# Altium schematic symbol library Connectors.SchLib: 134 symbols (part 2 of 2)
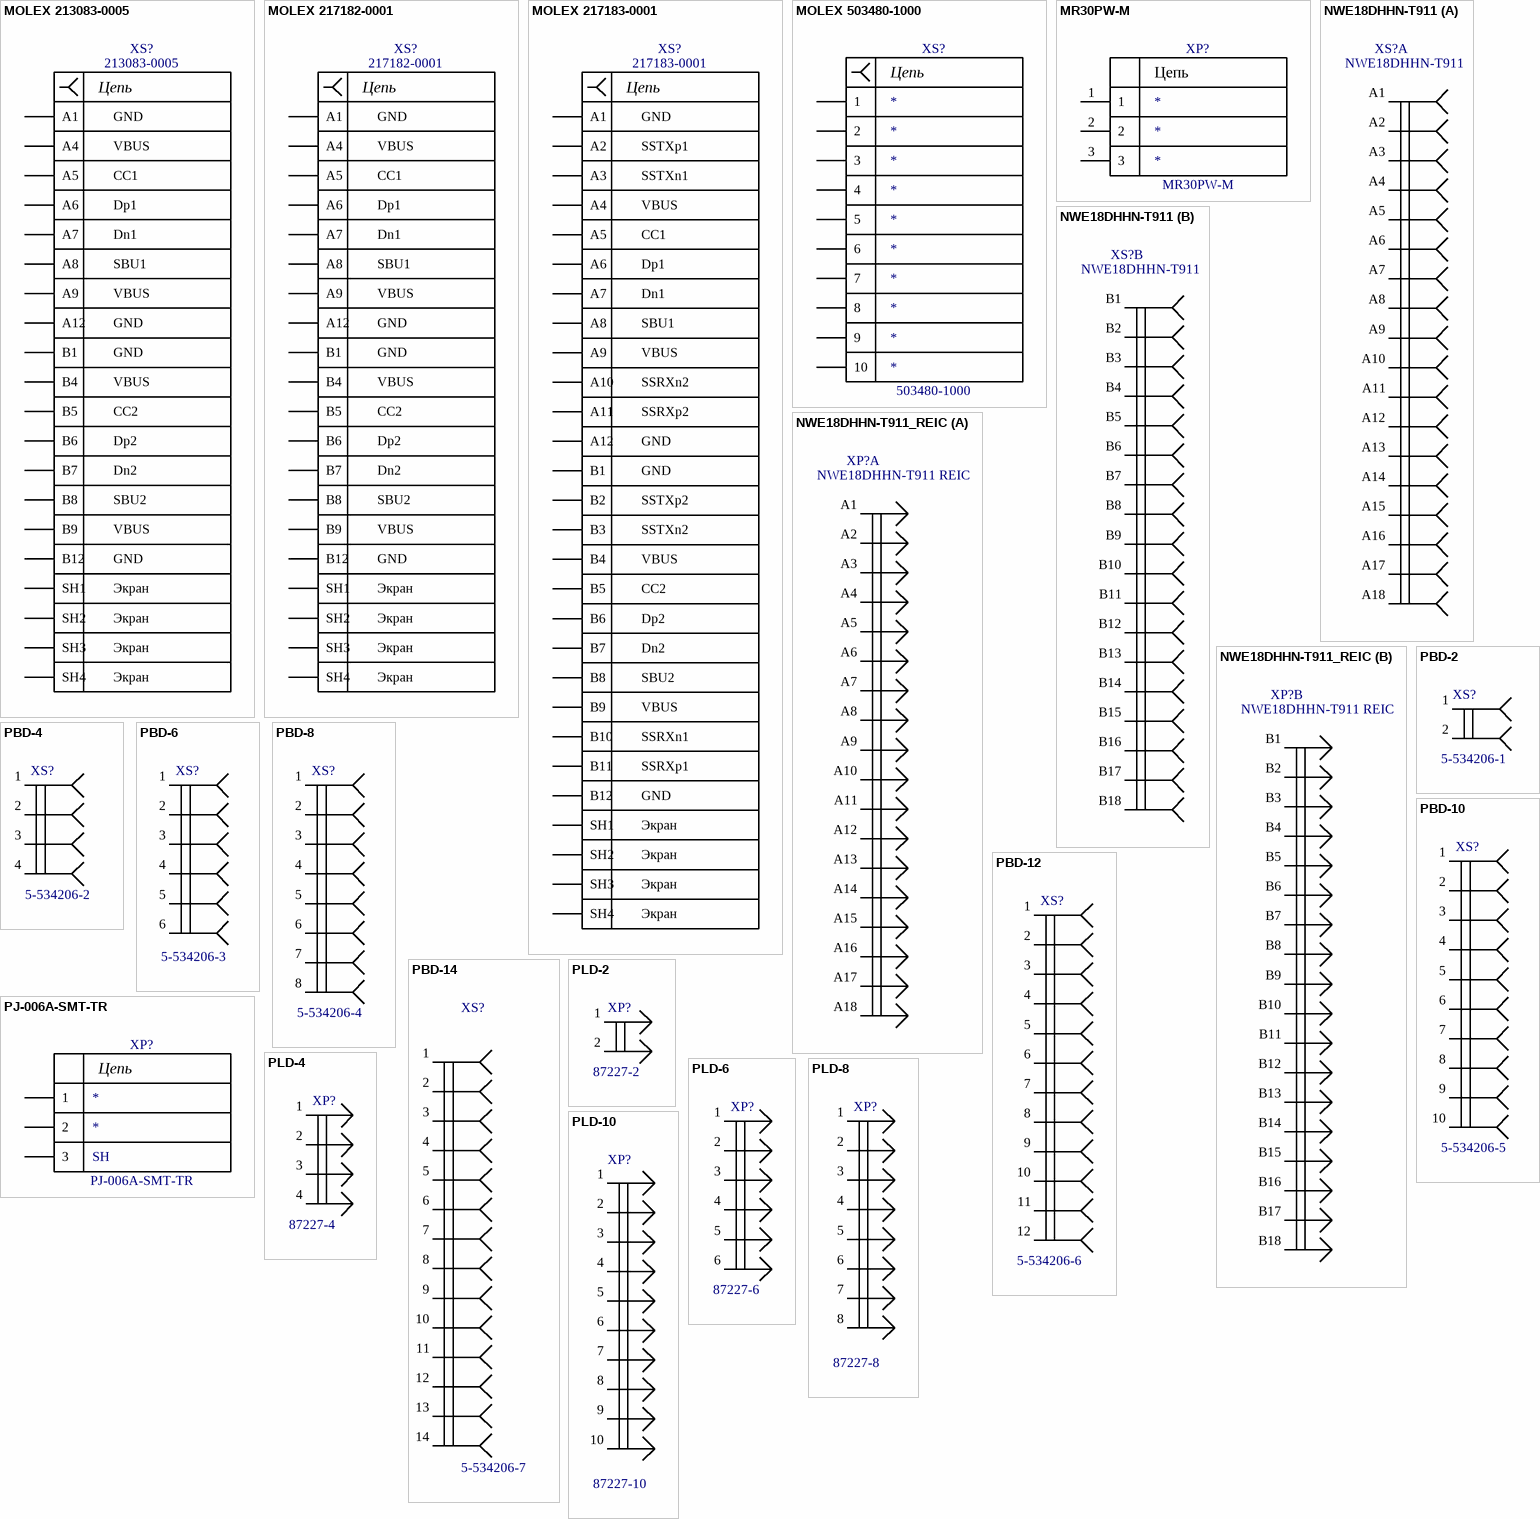
[diagram p5: symbols MOLEX 213083-0005 to PLD-10]

## PBD-2
designator XS?, comment 5-534206-1
Header, Vertical Receptacle, 2.54 mm pitch 2x1; Manufacturer: TE Connectivity; PartNumber: 5-534206-1; Net2: *; Net1: *
footprint RHDRV2W45P254_1X2_304X500H500 (Header, Vertical Receptacle, 2.54 mm pitch; 0.45 mm lead width, 2 pins, 2 rows, 1 pin per row, 3.04 mm L X 5.00 mm W X 5.00 mm H body)
pins: 1, 2
1 alternate drawing of the same symbol

## PBD-4
designator XS?, comment 5-534206-2
Header, Vertical Receptacle, 2.54 mm pitch 2x2; Manufacturer: TE Connectivity; PartNumber: 5-534206-2; Net1: *; Net2: *; Net3: *; Net4: *
footprint RHDRV4W45P254_2X2_558X500H500 (Header, Vertical Receptacle, 2.54 mm pitch; 0.45 mm lead width, 4 pins, 2 rows, 2 pins per row, 5.58 mm L X 5.00 mm W X 5.00 mm H body)
pins: 1, 2, 3, 4
1 alternate drawing of the same symbol

## PBD-6
designator XS?, comment 5-534206-3
Header, Vertical Receptacle, 2.54 mm pitch 2x3; Manufacturer: TE Connectivity; PartNumber: 5-534206-3; Net1: *; Net2: *; Net3: *; Net4: *; Net5: *; Net6: *
footprint RHDRV6W45P254_3X2_812X500H500 (Header, Vertical Receptacle, 2.54 mm pitch; 0.45 mm lead width, 6 pins, 2 rows, 3 pins per row, 8.12 mm L X 5.00 mm W X 5.00 mm H body)
pins: 1, 2, 3, 4, 5, 6
1 alternate drawing of the same symbol

## PBD-8
designator XS?, comment 5-534206-4
Header, Vertical Receptacle, 2.54 mm pitch 2x4; Manufacturer: TE Connectivity; PartNumber: 5-534206-4; Net1: *; Net2: *; Net3: *; Net4: *; Net5: *; Net6: *; Net7: *; Net8: *
footprint RHDRV8W45P254_4X2_1066X500H500 (Header, Vertical Receptacle, 2.54 mm pitch; 0.45 mm lead width, 8 pins, 2 rows, 4 pins per row, 10.66 mm L X 5.00 mm W X 5.00 mm H body)
pins: 1, 2, 3, 4, 5, 6, 7, 8
1 alternate drawing of the same symbol

## PBD-10
designator XS?, comment 5-534206-5
Header, Vertical Receptacle, 2.54 mm pitch 2x5; Manufacturer: TE Connectivity; PartNumber: 5-534206-5; Net1: *; Net2: *; Net3: *; Net4: *; Net5: *; Net9: *; Net10: *; Net6: *; Net8: *; Net7: *
footprint RHDRV10W45P254_5X2_1320X500H500 (Header, Vertical Receptacle, 2.54 mm pitch; 0.45 mm lead width, 10 pins, 2 rows, 5 pins per row, 13.20 mm L X 5.00 mm W X 5.00 mm H body)
pins: 1, 2, 3, 4, 5, 6, 7, 8, 9, 10
1 alternate drawing of the same symbol

## PBD-12
designator XS?, comment 5-534206-6
Header, Vertical Receptacle, 2.54 mm pitch 2x6; Manufacturer: TE Connectivity; PartNumber: 5-534206-6; Net1: *; Net2: *; Net3: *; Net4: *; Net5: *; Net6: *; Net7: *; Net8: *; Net9: *; Net10: *; Net11: *; Net12: *
footprint RHDRV12W45P254_6X2_1574X500H500 (Header, Vertical Receptacle, 2.54 mm pitch; 0.45 mm lead width, 12 pins, 2 rows, 6 pins per row, 15.74 mm L X 5.00 mm W X 5.00 mm H body)
pins: 1, 2, 3, 4, 5, 6, 7, 8, 9, 10, 11, 12
1 alternate drawing of the same symbol

## PBD-14
designator XS?, comment 5-534206-7
Header, Vertical Receptacle, 2.54 mm pitch 2x7; Manufacturer: TE Connectivity; PartNumber: 5-534206-7; Net1: *; Net2: *; Net3: *; Net4: *; Net5: *; Net6: *; Net7: *; Net8: *; Net9: *; Net10: *; Net14: *; Net13: *; Net12: *; Net11: *
footprint RHDRV14W64P254_7X2_1778X508H884 (Header, Vertical Receptacle, 2.54 mm pitch; 0.64 mm lead width, 14 pins, 2 rows, 7 pins per row, 17.78 mm L X 5.08 mm W X 8.84 mm H body)
pins: 1, 2, 3, 4, 5, 6, 7, 8, 9, 10, 11, 12, 13, 14
1 alternate drawing of the same symbol

## PJ-006A-SMT-TR
designator XP?
2.0 x 6.3 mm, 2.5 A, Vertical, Surface Mount (SMT), Dc Power Jack Connector; Manufacturer: CUIDevices; PartNumber: PJ-006A-SMT-TR; ComponentLink1Description: Product Page; ComponentLink1URL: https://www.cuidevices.com/product/interconnect/connectors/dc-power-connectors/jacks/pj-006a-smt-tr; ComponentLink2Description: DataSheet; ComponentLink2URL: https://www.cuidevices.com/product/resource/pdf/pj-006a-smt.pdf; Net2: *; Net1: *
footprint PJ-006A-SMT-TR (2.0 x 6.3 mm, 2.5 A, Vertical, Surface Mount (SMT), Dc Power Jack Connector)
pins: 1, 2, 3
text: Цепь; SH

## PLD-2
designator XP?, comment 87227-2
Header, Vertical, Non-shrouded, 2.54 mm pitch 2x1; Manufacturer: TE Connectivity; PartNumber: 87227-2; Net1: *; Net2: *
footprint HDRV2W64P254_1X2_254X508H884 (Header, Vertical, 2.54 mm pitch; 0.64 mm lead width, 2 pins, 2 rows, 1 pin per row, 2.54 mm L X 5.08 mm W X 8.84 mm H body)
pins: 1, 2
1 alternate drawing of the same symbol

## PLD-4
designator XP?, comment 87227-4
Header, Vertical, Non-shrouded, 2.54 mm pitch 2x2; Manufacturer: TE Connectivity; PartNumber: 87227-4; Net1: *; Net2: *; Net3: *; Net4: *
footprint HDRV4W64P254_2X2_508X508H884 (Header, Vertical, 2.54 mm pitch; 0.64 mm lead width, 4 pins, 2 rows, 2 pins per row, 5.08 mm L X 5.08 mm W X 8.84 mm H body)
pins: 1, 2, 3, 4
1 alternate drawing of the same symbol

## PLD-6
designator XP?, comment 87227-6
Header, Vertical, Non-shrouded, 2.54 mm pitch 2x3; Manufacturer: TE Connectivity; PartNumber: 87227-6; Net1: *; Net2: *; Net3: *; Net4: *; Net5: *; Net6: *
footprint HDRV6W64P254_3X2_762X508H884 (Header, Vertical, 2.54 mm pitch; 0.64 mm lead width, 6 pins, 2 rows, 3 pins per row, 7.62 mm L X 5.08 mm W X 8.84 mm H body)
pins: 1, 2, 3, 4, 5, 6
1 alternate drawing of the same symbol

## PLD-8
designator XP?, comment 87227-8
Header, Vertical, Non-shrouded, 2.54 mm pitch 2x4; Manufacturer: TE Connectivity; PartNumber: 87227-8; Net1: *; Net2: *; Net3: *; Net4: *; Net5: *; Net6: *; Net7: *; Net8: *
footprint HDRV8W64P254_4X2_1016X508H884 (Header, Vertical, 2.54 mm pitch; 0.64 mm lead width, 8 pins, 2 rows, 4 pins per row, 10.16 mm L X 5.08 mm W X 8.84 mm H body)
pins: 1, 2, 3, 4, 5, 6, 7, 8
1 alternate drawing of the same symbol

## PLD-10
designator XP?, comment 87227-10
Header, Vertical, Non-shrouded, 2.54 mm pitch 2x5; Manufacturer: TE Connectivity; PartNumber: 87227-10; Net1: *; Net10: *; Net2: *; Net3: *; Net4: *; Net5: *; Net6: *; Net7: *; Net8: *; Net9: *
footprint HDRV10W64P254_5X2_1270X508H884 (Header, Vertical, 2.54 mm pitch; 0.64 mm lead width, 10 pins, 2 rows, 5 pins per row, 12.70 mm L X 5.08 mm W X 8.84 mm H body)
pins: 1, 2, 3, 4, 5, 6, 7, 8, 9, 10
1 alternate drawing of the same symbol

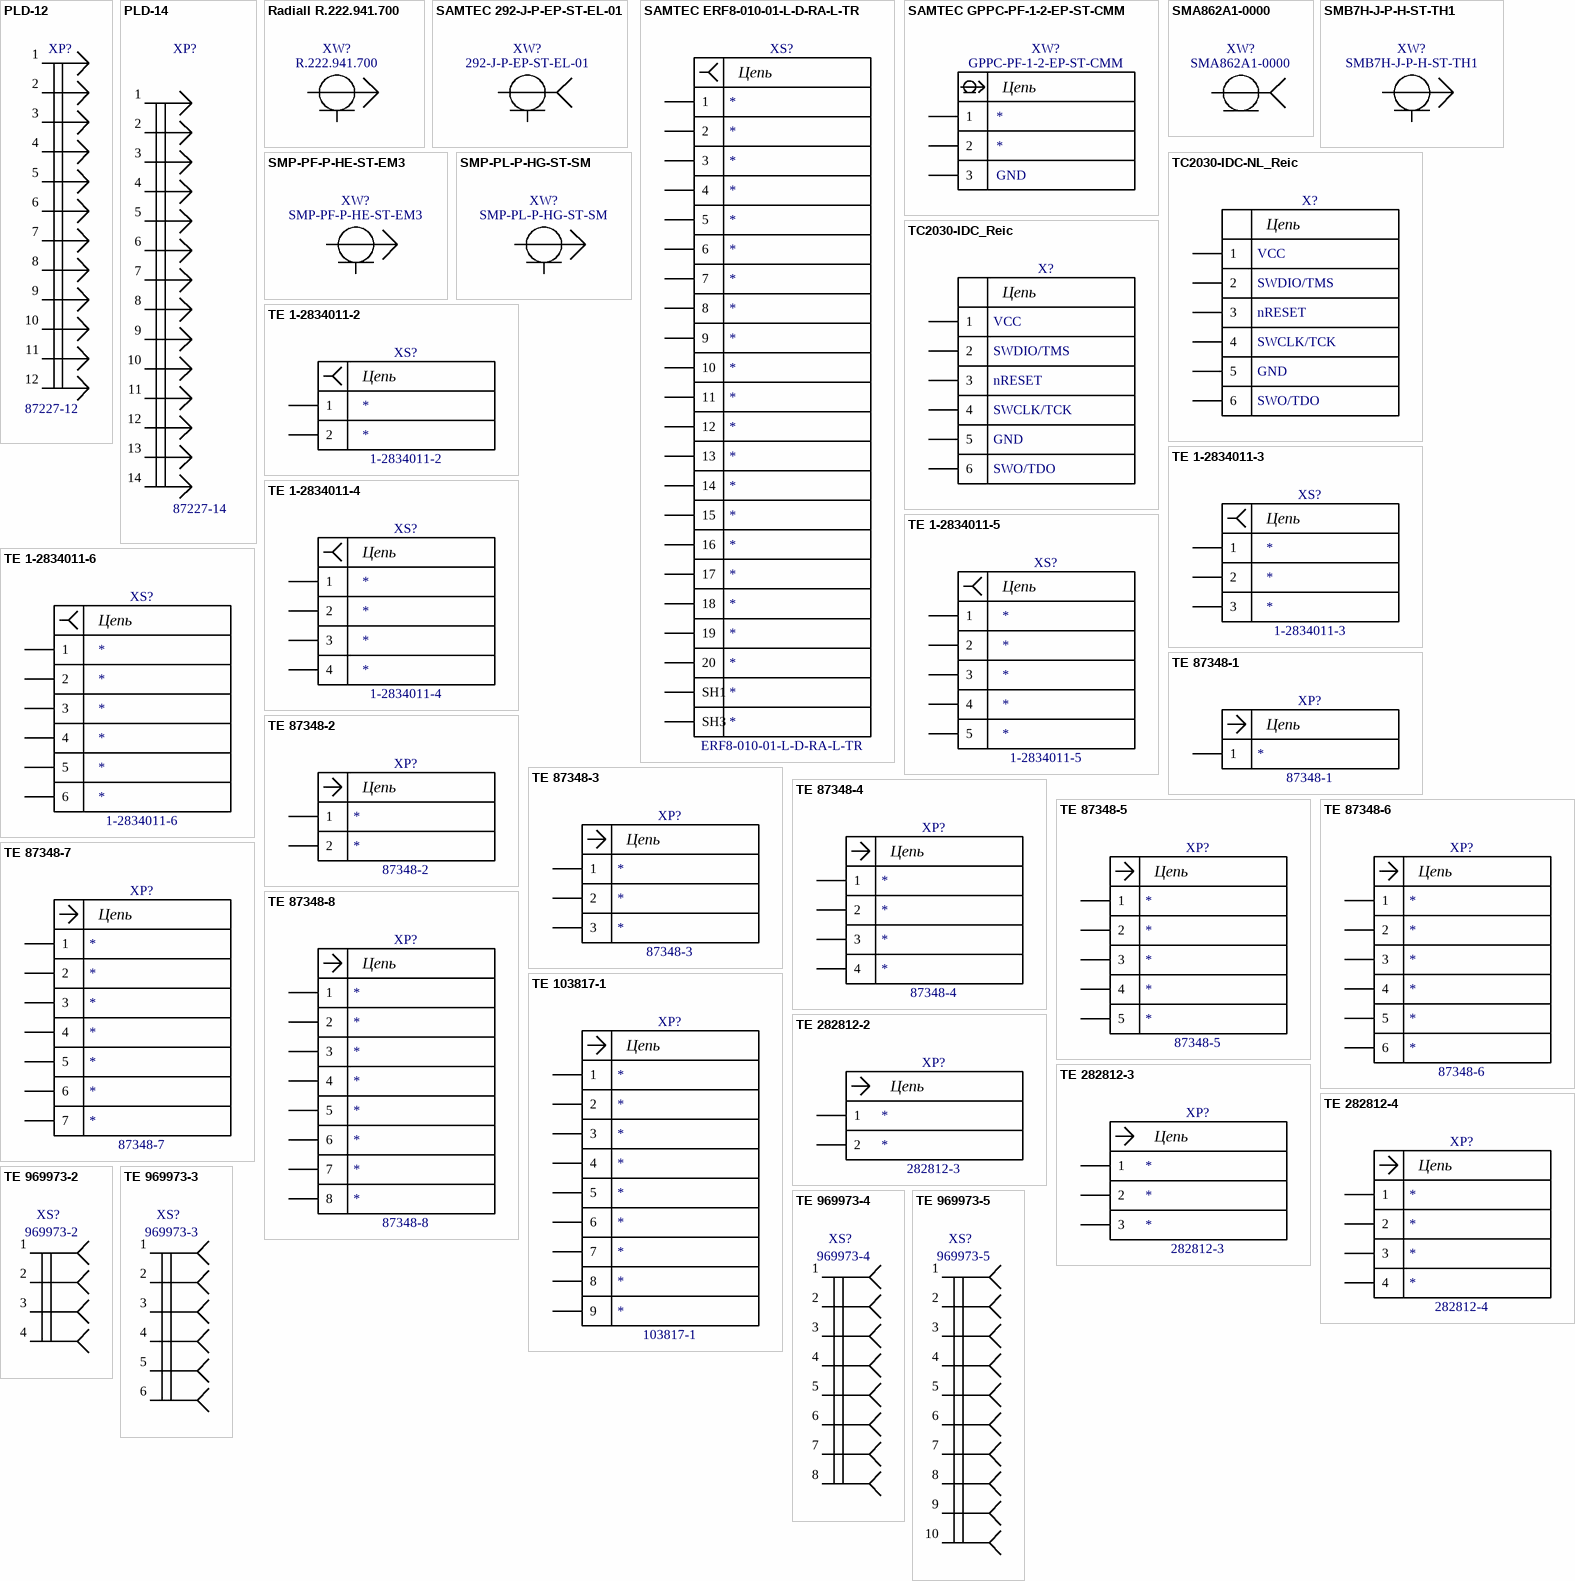
[diagram p3: symbols PLD-12 to TE 969973-5]

## PLD-12
designator XP?, comment 87227-12
Header, Vertical, Non-shrouded, 2.54 mm pitch 2x6; Manufacturer: TE Connectivity; PartNumber: 87227-12; Net1: *; Net2: *; Net3: *; Net4: *; Net5: *; Net6: *; Net7: *; Net8: *; Net9: *; Net10: *; Net11: *; Net12: *
footprint HDRV12W64P254_6X2_1524X508H884 (Header, Vertical, 2.54 mm pitch; 0.64 mm lead width, 12 pins, 2 rows, 6 pins per row, 15.24 mm L X 5.08 mm W X 8.84 mm H body)
pins: 1, 2, 3, 4, 5, 6, 7, 8, 9, 10, 11, 12
1 alternate drawing of the same symbol

## PLD-14
designator XP?, comment 87227-14
Header, Vertical, Non-shrouded, 2.54 mm pitch 2x7; Manufacturer: TE Connectivity; PartNumber: 87227-14; Net2: *; Net3: *; Net4: *; Net5: *; Net6: *; Net7: *; Net8: *; Net9: *; Net10: *; Net11: *; Net13: *; Net12: *; Net14: *; Net1: *
footprint HDRV14W64P254_7X2_1778X508H884 (Header, Vertical, 2.54 mm pitch; 0.64 mm lead width, 14 pins, 2 rows, 7 pins per row, 17.78 mm L X 5.08 mm W X 8.84 mm H body)
pins: 1, 2, 3, 4, 5, 6, 7, 8, 9, 10, 11, 12, 13, 14
1 alternate drawing of the same symbol

## Radiall R.222.941.700
designator XW?, comment R.222.941.700
RF Connector / Coaxial Connector SMP/STRG MALE RECP SMT SMOOTH BORE; Manufacturer: Radiall; Gender: Female; PCB Mounting Orientation: Vertical; Connector Type: Jack; Body Material: LiquidCrystalPolymer; Case\/Package: SMD/SMT; Impedance: 50Ohm; Max Frequency: 6GHz; Body Plating: Gold; Dielectric Material: Polymer; Orientation: Straight; Mount: SurfaceMount; Length: 3mm; Packaging: TapeandReel; Lead Free: LeadFree; Package Quantity: 1; Termination: SMD/SMT; Contact Material: CopperAlloy; Fastening Type: Pull; RoHSCompliant: true; Max Operating Temperature: 90degC; Datasheet URL: http://www.te.com/commerce/DocumentDelivery/DDEController?Action=srchrtrv&DocNm=1909763&DocType=Customer+Drawing&DocLang=English; Contact Plating: Gold; Mounting Technology: SurfaceMount; Package Reference: TECO-1909763-1; Insulation Material: Thermoplastic; Min Operating Temperature: -40degC; Manufacturer URL: http://www.te.com/; ELV: Compliant; Datasheet Version: Rev. B2, 11/2015; Radiation Hardening: No; Package Description: 3-Pin Surface Mount Device, Body 2.6 x 2.6 mm; Housing Colour: Beige; Supplier 1: Digi-Key; Supplier Part Number 1: A118077CT-ND; PartNumber: R.222.941.700; ComponentLink1Description: Product Page; ComponentLink1URL: https://www.radiall.com/smp-straight-male-receptacle-smt-smooth-bore-tape-and-reel-of-500-r222941700.html; ComponentLink2Description: DataSheet; ComponentLink2URL: https://www.radiall.com/ewscore/download/ds/f/aHR0cHM6Ly9yYWRpYWxsLWZpbGVzLnMzLmFtYXpvbmF3cy5jb20vdGRzL2NvYXhpYWxjb25uZWN0b3JzL1IyMjI5NDE3MDAgQy5wZGY=/
footprint Radiall R.222.941.700 (RF Connector / Coaxial Connector SMP/STRG MALE RECP SMT SMOOTH BORE)
pins: 1, 2

## SAMTEC 292-J-P-EP-ST-EL-01
designator XW?, comment 292-J-P-EP-ST-EL-01
50 Ohm 2.92 mm Jack, Edge Launch Compression Mount; Manufacturer: Samtec; PartNumber: 292-J-P-EP-ST-EL-01; ComponentLink1Description: Product Page; ComponentLink1URL: https://www.samtec.com/products/292-el; ComponentLink2Description: DataSheet; ComponentLink2URL: https://suddendocs.samtec.com/prints/292-j-p-ep-st-el-01-x-mkt.pdf
footprint SAMTEC 292-J-P-EP-ST-EL-01 (50 Ohm 2.92 mm Jack, Edge Launch Compression Mount)
pins: 1, 2

## SAMTEC ERF8-010-01-L-D-RA-L-TR
designator XS?, comment ERF8-010-01-L-D-RA-L-TR
0.80 mm Edge Rate® Rugged High Speed Socket, Right-Angle, 10 pins; Manufacturer: Samtec; PartNumber: ERF8-010-01-L-D-RA-L-TR; ComponentLink1Description: Product Page; ComponentLink1URL: https://www.samtec.com/products/erf8-010-01-l-d-ra-l-tr; NetSH3: *; NetSH1: *; Net1: *; Net2: *; Net19: *; Net20: *; Net18: *; Net17: *; Net16: *; Net15: *; Net14: *; Net13: *; Net12: *; Net11: *; Net10: *; Net9: *; Net8: *; Net7: *; Net6: *; Net5: *; Net4: *; Net3: *
footprint SAMTEC ERF8-010-01-L-D-RA-L-TR (0.80 mm Edge Rate® Rugged High Speed Socket, Right-Angle, 10 pins)
pins: 1, 2, 3, 4, 5, 6, 7, 8, 9, 10, 11, 12, 13, 14, 15, 16, 17, 18, 19, 20, SH1, SH3
text: Цепь

## SAMTEC GPPC-PF-1-2-EP-ST-CMM
designator XW?, comment GPPC-PF-1-2-EP-ST-CMM  Net3: GND
Magnum RF™ Ganged, Two-Port SMPM Block, Compression Mount; Manufacturer: Samtec; PartNumber: GPPC-PF-1-2-EP-ST-CMM; ComponentLink1Description: Product Page; ComponentLink1URL: https://www.samtec.com/products/gppc-cmm; Net2: *; Net1: *
footprint SAMTEC GPPC-PF-1-2-EP-ST-CMM (Magnum RF™ Ganged, Two-Port SMPM Block, Compression Mount)
pins: 1, 2, 3
text: Цепь

## SMA862A1-0000
designator XW?
SMA Jack For Panel Receptacle 50Ohm JYEBAO; PartNumber: SMA862A1-0000; Manufacturer: JYEBAO; ComponentLink1Description: Product Page; ComponentLink1URL: https://www.jyebao.com.tw/product/detail/id/27893.html; ComponentLink2Description: DataSheet; ComponentLink2URL: https://www.jyebao.com.tw/upload/SMA862A1-0000.pdf
footprint SMA862A1-0000 (SMA Jack For Panel Receptacle 50Ohm 2 Holes)
pins: 1

## SMB7H-J-P-H-ST-TH1
designator XW?
Samtec SMB 75Ohm Tru Jack; PartNumber: SMB7H-J-P-H-ST-TH1; Manufacturer: Samtec; ComponentLink1Description: Product Page; ComponentLink1URL: https://www.samtec.com/products/smb7h-th; ComponentLink2Description: DataSheet; ComponentLink2URL: https://suddendocs.samtec.com/prints/smb7h-j-p-xx-ra-th1-mkt.pdf
footprint SMB7H-J-P-H-ST-TH1 (Samtec 75? True 75™ SMB Jack, Through-hole)
pins: 1, 2

## SMP-PF-P-HE-ST-EM3
designator XW?
Samtec 50 Ohm SMP Plug, Edge Moun; PartNumber: SMP-PF-P-HE-ST-EM3; Manufacturer: Samtec; ComponentLink1Description: Product Page; ComponentLink1URL: https://www.samtec.com/products/smp-pf-p-he-st-em3; ComponentLink2Description: DataSheet; ComponentLink2URL: https://suddendocs.samtec.com/prints/smp-px-p-xx-st-em3-mkt.pdf
footprint SMP-PF-P-HE-ST-EM3 (Samtec 50 Ohm SMP Plug, Edge Mount)
pins: 1, 2

## SMP-PL-P-HG-ST-SM
designator XW?
Samtec 50 Ohm SMP Plug, Surface Mount, 40 GHz, SMP-SM Series; PartNumber: SMP-PL-P-HG-ST-SM; Manufacturer: Samtec; ComponentLink1Description: Product Page; ComponentLink1URL: https://www.samtec.com/products/smp-sm; ComponentLink2Description: DataSheet; ComponentLink2URL: https://suddendocs.samtec.com/prints/smp-px-p-xx-st-sm-mkt.pdf
footprint SMP-PL-P-HG-ST-SM (Samtec 50 Ohm SMP Plug, Surface Mount, 40 GHz, SMP-SM Series)
pins: 1, 2

## TC2030-IDC-NL_Reic
designator X?  Net6: SWO/TDO  Net5: GND  Net4: SWCLK/TCK  Net3: nRESET  Net2: SWDIO/TMS  Net1: VCC  (no BOM)
Контактные точки TC2030-IDC-NL; ComponentLink1Description: Product Page; ComponentLink1URL: https://www.tag-connect.com/product/tc2030-ctx-nl-stdc14-for-use-with-stm32-processors-with-stlink-v3
footprint TC2030-IDC-NL_Reic (Контактные точки TC2030-IDC-NL)
pins: 1, 2, 3, 4, 5, 6
text: Цепь

## TC2030-IDC_Reic
designator X?  Net6: SWO/TDO  Net5: GND  Net4: SWCLK/TCK  Net3: nRESET  Net2: SWDIO/TMS  Net1: VCC  (no BOM)
Контактные точки TC2030-IDC; ComponentLink1Description: Product Page; ComponentLink1URL: https://www.tag-connect.com/product/tc2030-ctx-6-pin-cable-for-arm-cortex
footprint TC2030-IDC_Reic (Контактные точки TC2030-IDC)
pins: 1, 2, 3, 4, 5, 6
text: Цепь

## TE 1-2834011-2
designator XS?, comment 1-2834011-2
PCB Terminal Blocks, Receptacle, Wire-to-Board, 2 Position, 1 Row, 45° Wire Entry Angle, 20 – 14 AWG Wire Size, Operating Voltage 300 VAC; Manufacturer: TE Connectivity; PartNumber: 1-2834011-2; ComponentLink1Description: Product Page; ComponentLink1URL: https://www.te.com/en/product-1-2834011-2.html; Net1: *; Net2: *
footprint TE 1-2834011-2 (PCB Terminal Blocks, Receptacle, Wire-to-Board, 2 Position, 1 Row, 45° Wire Entry Angle, 20 – 14 AWG Wire Size, Operating Voltage 300 VAC)
pins: 1, 2
text: Цепь

## TE 1-2834011-3
designator XS?, comment 1-2834011-3
PCB Terminal Blocks, Receptacle, Wire-to-Board, 3 Position, 1 Row, 45° Wire Entry Angle, 20 – 14 AWG Wire Size, Operating Voltage 300 VAC; Manufacturer: TE Connectivity; PartNumber: 1-2834011-3; ComponentLink1Description: Product Page; ComponentLink1URL: https://www.te.com/en/product-1-2834011-3.html; Net3: *; Net1: *; Net2: *
footprint TE 1-2834011-3 (PCB Terminal Blocks, Receptacle, Wire-to-Board, 3 Position, 1 Row, 45° Wire Entry Angle, 20 – 14 AWG Wire Size, Operating Voltage 300 VAC)
pins: 1, 2, 3
text: Цепь

## TE 1-2834011-4
designator XS?, comment 1-2834011-4
PCB Terminal Blocks, Receptacle, Wire-to-Board, 4 Position, 1 Row, 45° Wire Entry Angle, 20 – 14 AWG Wire Size, Operating Voltage 300 VAC; Manufacturer: TE Connectivity; PartNumber: 1-2834011-4; ComponentLink1Description: Product Page; ComponentLink1URL: https://www.te.com/en/product-1-2834011-4.html; Net4: *; Net3: *; Net1: *; Net2: *
footprint TE 1-2834011-4 (PCB Terminal Blocks, Receptacle, Wire-to-Board, 4 Position, 1 Row, 45° Wire Entry Angle, 20 – 14 AWG Wire Size, Operating Voltage 300 VAC)
pins: 1, 2, 3, 4
text: Цепь

## TE 1-2834011-5
designator XS?, comment 1-2834011-5
PCB Terminal Blocks, Receptacle, Wire-to-Board, 5 Position, 1 Row, 45° Wire Entry Angle, 20 – 14 AWG Wire Size, Operating Voltage 300 VAC; Manufacturer: TE Connectivity; PartNumber: 1-2834011-5; ComponentLink1Description: Product Page; ComponentLink1URL: https://www.te.com/en/product-1-2834011-5.html; Net5: *; Net4: *; Net3: *; Net1: *; Net2: *
footprint TE 1-2834011-5 (PCB Terminal Blocks, Receptacle, Wire-to-Board, 5 Position, 1 Row, 45° Wire Entry Angle, 20 – 14 AWG Wire Size, Operating Voltage 300 VAC)
pins: 1, 2, 3, 4, 5
text: Цепь

## TE 1-2834011-6
designator XS?, comment 1-2834011-6
PCB Terminal Blocks, Receptacle, Wire-to-Board, 6 Position, 1 Row, 45° Wire Entry Angle, 20 – 14 AWG Wire Size, Operating Voltage 300 VAC; Manufacturer: TE Connectivity; PartNumber: 1-2834011-6; ComponentLink1Description: Product Page; ComponentLink1URL: https://www.te.com/en/product-1-2834011-6.html; Net6: *; Net5: *; Net4: *; Net3: *; Net1: *; Net2: *
footprint TE 1-2834011-6 (PCB Terminal Blocks, Receptacle, Wire-to-Board, 6 Position, 1 Row, 45° Wire Entry Angle, 20 – 14 AWG Wire Size, Operating Voltage 300 VAC)
pins: 1, 2, 3, 4, 5, 6
text: Цепь

## TE 87348-1
designator XP?, comment 87348-1
PCB Mount Header, Vertical, Board-to-Board, 3 Position, 2.54 mm [.1 in] Centerline, Unshrouded, Tin-Lead, Through Hole - Solder, AMPMODU Headers; Manufacturer: TE Connectivity; PartNumber: 87348-1; ComponentLink1Description: Product Page; ComponentLink1URL: https://www.te.com/usa-en/product-87348-1.html; Net1: *
footprint TE 87348-1 (PCB Mount Header, Vertical, Board-to-Board, 3 Position, 2.54 mm [.1 in] Centerline, Unshrouded, Tin-Lead, Through Hole - Solder, AMPMODU Headers)
pins: 1
text: Цепь

## TE 87348-2
designator XP?, comment 87348-2
PCB Mount Header, Vertical, Board-to-Board, 3 Position, 2.54 mm [.1 in] Centerline, Unshrouded, Tin-Lead, Through Hole - Solder, AMPMODU Headers; Manufacturer: TE Connectivity; PartNumber: 87348-2; ComponentLink1Description: Product Page; ComponentLink1URL: https://www.te.com/usa-en/product-87348-2.html; Net2: *; Net1: *
footprint TE 87348-2 (PCB Mount Header, Vertical, Board-to-Board, 3 Position, 2.54 mm [.1 in] Centerline, Unshrouded, Tin-Lead, Through Hole - Solder, AMPMODU Headers)
pins: 1, 2
text: Цепь

## TE 87348-3
designator XP?, comment 87348-3
PCB Mount Header, Vertical, Board-to-Board, 3 Position, 2.54 mm [.1 in] Centerline, Unshrouded, Tin-Lead, Through Hole - Solder, AMPMODU Headers; Manufacturer: TE Connectivity; PartNumber: 87348-3; ComponentLink1Description: Product Page; ComponentLink1URL: https://www.te.com/usa-en/product-87348-3.html; Net3: *; Net2: *; Net1: *
footprint TE 87348-3 (PCB Mount Header, Vertical, Board-to-Board, 3 Position, 2.54 mm [.1 in] Centerline, Unshrouded, Tin-Lead, Through Hole - Solder, AMPMODU Headers)
pins: 1, 2, 3
text: Цепь

## TE 87348-4
designator XP?, comment 87348-4
PCB Mount Header, Vertical, Board-to-Board, 3 Position, 2.54 mm [.1 in] Centerline, Unshrouded, Tin-Lead, Through Hole - Solder, AMPMODU Headers; Manufacturer: TE Connectivity; PartNumber: 87348-4; ComponentLink1Description: Product Page; ComponentLink1URL: https://www.te.com/usa-en/product-87348-4.html; Net4: *; Net3: *; Net2: *; Net1: *
footprint TE 87348-4 (PCB Mount Header, Vertical, Board-to-Board, 3 Position, 2.54 mm [.1 in] Centerline, Unshrouded, Tin-Lead, Through Hole - Solder, AMPMODU Headers)
pins: 1, 2, 3, 4
text: Цепь

## TE 87348-5
designator XP?, comment 87348-5
PCB Mount Header, Vertical, Board-to-Board, 3 Position, 2.54 mm [.1 in] Centerline, Unshrouded, Tin-Lead, Through Hole - Solder, AMPMODU Headers; Manufacturer: TE Connectivity; PartNumber: 87348-5; ComponentLink1Description: Product Page; ComponentLink1URL: https://www.te.com/usa-en/product-87348-5.html; Net5: *; Net4: *; Net3: *; Net2: *; Net1: *
footprint TE 87348-5 (PCB Mount Header, Vertical, Board-to-Board, 3 Position, 2.54 mm [.1 in] Centerline, Unshrouded, Tin-Lead, Through Hole - Solder, AMPMODU Headers)
pins: 1, 2, 3, 4, 5
text: Цепь

## TE 87348-6
designator XP?, comment 87348-6
PCB Mount Header, Vertical, Board-to-Board, 3 Position, 2.54 mm [.1 in] Centerline, Unshrouded, Tin-Lead, Through Hole - Solder, AMPMODU Headers; Manufacturer: TE Connectivity; PartNumber: 87348-6; ComponentLink1Description: Product Page; ComponentLink1URL: https://www.te.com/usa-en/product-87348-6.html; Net6: *; Net5: *; Net4: *; Net3: *; Net2: *; Net1: *
footprint TE 87348-6 (PCB Mount Header, Vertical, Board-to-Board, 3 Position, 2.54 mm [.1 in] Centerline, Unshrouded, Tin-Lead, Through Hole - Solder, AMPMODU Headers)
pins: 1, 2, 3, 4, 5, 6
text: Цепь

## TE 87348-7
designator XP?, comment 87348-7
PCB Mount Header, Vertical, Board-to-Board, 3 Position, 2.54 mm [.1 in] Centerline, Unshrouded, Tin-Lead, Through Hole - Solder, AMPMODU Headers; Manufacturer: TE Connectivity; PartNumber: 87348-7; ComponentLink1Description: Product Page; ComponentLink1URL: https://www.te.com/usa-en/product-87348-7.html; Net7: *; Net6: *; Net5: *; Net4: *; Net3: *; Net2: *; Net1: *
footprint TE 87348-7 (PCB Mount Header, Vertical, Board-to-Board, 3 Position, 2.54 mm [.1 in] Centerline, Unshrouded, Tin-Lead, Through Hole - Solder, AMPMODU Headers)
pins: 1, 2, 3, 4, 5, 6, 7
text: Цепь

## TE 87348-8
designator XP?, comment 87348-8
PCB Mount Header, Vertical, Board-to-Board, 3 Position, 2.54 mm [.1 in] Centerline, Unshrouded, Tin-Lead, Through Hole - Solder, AMPMODU Headers; Manufacturer: TE Connectivity; PartNumber: 87348-8; ComponentLink1Description: Product Page; ComponentLink1URL: https://www.te.com/usa-en/product-87348-8.html; Net8: *; Net7: *; Net6: *; Net5: *; Net4: *; Net3: *; Net2: *; Net1: *
footprint TE 87348-8 (PCB Mount Header, Vertical, Board-to-Board, 3 Position, 2.54 mm [.1 in] Centerline, Unshrouded, Tin-Lead, Through Hole - Solder, AMPMODU Headers)
pins: 1, 2, 3, 4, 5, 6, 7, 8
text: Цепь

## TE 103817-1
designator XP?, comment 103817-1
Header, Vertical, Non-shrouded, 2.54 mm pitch 3x3; Manufacturer: TE Connectivity; PartNumber: 103817-1; Net9: *; Net8: *; Net7: *; Net6: *; Net5: *; Net4: *; Net3: *; Net2: *; Net1: *
footprint TE 103817-1 (Header, Vertical, 2.54 mm pitch; 0.66 mm lead width, 9 pins, 3 rows, 3 pins per row, 7.20 mm L X 8.60 mm W X 9.00 mm H body)
pins: 1, 2, 3, 4, 5, 6, 7, 8, 9
text: Цепь

## TE 282812-2
designator XP?, comment 282812-3
PCB Terminal Blocks, Header, Wire-to-Board, 2 Position, .197 in [5 mm] Centerline, 1 Row, Operating Voltage 300 VAC, Printed Circuit Board; Manufacturer: TE Connectivity; PartNumber: 282812-3; ComponentLink1Description: Product Page; ComponentLink1URL: https://www.te.com/usa-en/product-282812-2.html; ComponentLink2Description: DataSheet; ComponentLink2URL: https://www.te.com/commerce/DocumentDelivery/DDEController?Action=showdoc&DocId=Customer+Drawing%7F282812%7FD5%7Fpdf%7FEnglish%7FENG_CD_282812_D5.pdf%7F282812-2; Net2: *; Net1: *
footprint TE 282812-2 (PCB Terminal Blocks, Header, Wire-to-Board, 2 Position, .197 in [5 mm] Centerline, 1 Row, Operating Voltage 300 VAC, Printed Circuit Board)
pins: 1, 2
text: Цепь

## TE 282812-3
designator XP?, comment 282812-3
PCB Terminal Blocks, Header, Wire-to-Board, 3 Position, .197 in [5 mm] Centerline, 1 Row, Operating Voltage 300 VAC, Printed Circuit Board; Manufacturer: TE Connectivity; PartNumber: 282812-3; ComponentLink1Description: Product Page; ComponentLink1URL: https://www.te.com/usa-en/product-282812-3.html; ComponentLink2Description: DataSheet; ComponentLink2URL: https://www.te.com/commerce/DocumentDelivery/DDEController?Action=showdoc&DocId=Customer+Drawing%7F282812%7FD5%7Fpdf%7FEnglish%7FENG_CD_282812_D5.pdf%7F282812-3; Net3: *; Net2: *; Net1: *
footprint TE 282812-3 (PCB Terminal Blocks, Header, Wire-to-Board, 3 Position, .197 in [5 mm] Centerline, 1 Row, Operating Voltage 300 VAC, Printed Circuit Board)
pins: 1, 2, 3
text: Цепь

## TE 282812-4
designator XP?, comment 282812-4
PCB Terminal Blocks, Header, Wire-to-Board, 4 Position, .197 in [5 mm] Centerline, 1 Row, Operating Voltage 300 VAC, Printed Circuit Board; Manufacturer: TE Connectivity; PartNumber: 282812-4; ComponentLink1Description: Product Page; ComponentLink1URL: https://www.te.com/usa-en/product-282812-4.html; ComponentLink2Description: DataSheet; ComponentLink2URL: https://www.te.com/commerce/DocumentDelivery/DDEController?Action=showdoc&DocId=Customer+Drawing%7F282812%7FD5%7Fpdf%7FEnglish%7FENG_CD_282812_D5.pdf%7F282812-4; Net4: *; Net3: *; Net2: *; Net1: *
footprint TE 282812-4 (PCB Terminal Blocks, Header, Wire-to-Board, 4 Position, .197 in [5 mm] Centerline, 1 Row, Operating Voltage 300 VAC, Printed Circuit Board)
pins: 1, 2, 3, 4
text: Цепь

## TE 969973-2
designator XS?, comment 969973-2
Header, Vertical, Receptacle, 2.54 mm pitch 2x2; Manufacturer: TE Connectivity; PartNumber: 969973-2; ComponentLink1Description: Product Page; ComponentLink1URL: https://www.te.com/usa-en/product-969973-2.html; ComponentLink2Description: DataSheet; ComponentLink2URL: https://www.te.com/usa-en/product-969973-2.datasheet.pdf
footprint TE 969973-2 (2x2P HV100 REC DOUBLE ROW)
footprint TE 969973-2 BACK (2x2P HV100 REC DOUBLE ROW WITH HOLES)
pins: 1, 2, 3, 4

## TE 969973-3
designator XS?, comment 969973-3
Header, Vertical, Receptacle, 2.54 mm pitch 2x3; Manufacturer: TE Connectivity; PartNumber: 969973-3; ComponentLink1Description: Product Page; ComponentLink1URL: https://www.te.com/usa-en/product-969973-3.html; ComponentLink2Description: DataSheet; ComponentLink2URL: https://www.te.com/usa-en/product-969973-3.datasheet.pdf
footprint TE 969973-3 (2x3P HV100 REC DOUBLE ROW)
footprint TE 969973-3 BACK (2x3P HV100 REC DOUBLE ROW WITH HOLES)
pins: 1, 2, 3, 4, 5, 6

## TE 969973-4
designator XS?, comment 969973-4
Header, Vertical, Receptacle, 2.54 mm pitch 2x4; Manufacturer: TE Connectivity; PartNumber: 969973-4; ComponentLink1Description: Product Page; ComponentLink1URL: https://www.te.com/usa-en/product-969973-4.html; ComponentLink2Description: DataSheet; ComponentLink2URL: https://www.te.com/usa-en/product-969973-4.datasheet.pdf
footprint TE 969973-4 (2x4P HV100 REC DOUBLE ROW)
footprint TE 969973-4 BACK (2x4P HV100 REC DOUBLE ROW WITH HOLES)
pins: 1, 2, 3, 4, 5, 6, 7, 8

## TE 969973-5
designator XS?, comment 969973-5
Header, Vertical, Receptacle, 2.54 mm pitch 2x5; Manufacturer: TE Connectivity; PartNumber: 969973-5; ComponentLink1Description: Product Page; ComponentLink1URL: https://www.te.com/usa-en/product-969973-5.html; ComponentLink2Description: DataSheet; ComponentLink2URL: https://www.te.com/usa-en/product-969973-5.datasheet.pdf
footprint TE 969973-5 (2x5P HV100 REC DOUBLE ROW)
footprint TE 969973-5 BACK (2x5P HV100 REC DOUBLE ROW WITH HOLES)
pins: 1, 2, 3, 4, 5, 6, 7, 8, 9, 10

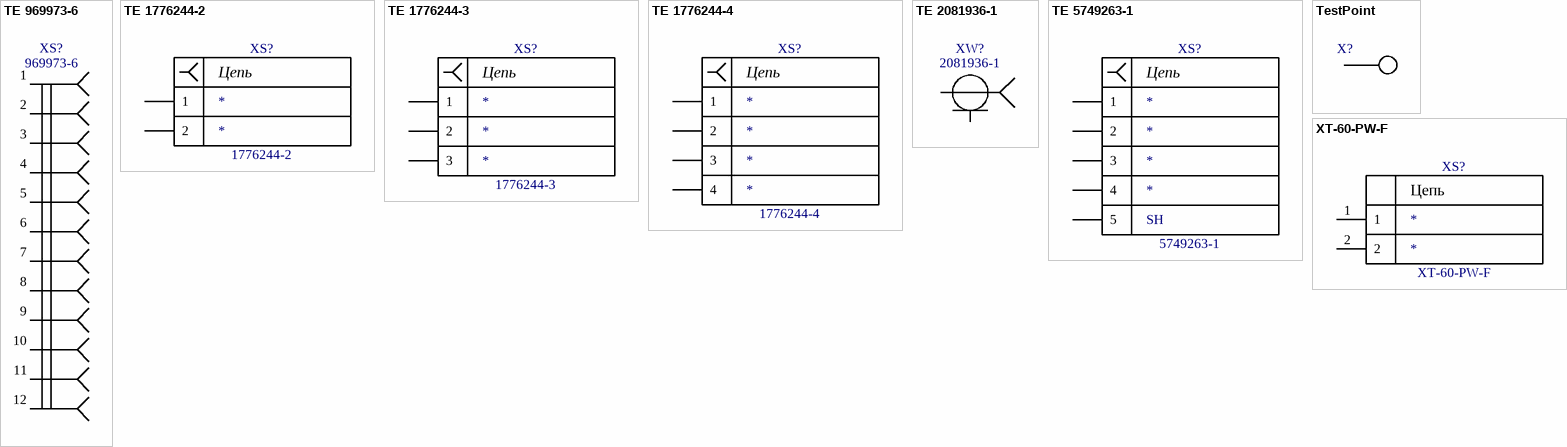
[diagram p4: symbols TE 969973-6 to XT-60-PW-F]

## TE 969973-6
designator XS?, comment 969973-6
Header, Vertical, Receptacle, 2.54 mm pitch 2x6; Manufacturer: TE Connectivity; PartNumber: 969973-6; ComponentLink1Description: Product Page; ComponentLink1URL: https://www.te.com/usa-en/product-969973-6.html; ComponentLink2Description: DataSheet; ComponentLink2URL: https://www.te.com/usa-en/product-969973-6.datasheet.pdf
footprint TE 969973-6 (2x6P HV100 REC DOUBLE ROW)
footprint TE 969973-6 BACK (2x6P HV100 REC DOUBLE ROW WITH HOLES)
pins: 1, 2, 3, 4, 5, 6, 7, 8, 9, 10, 11, 12

## TE 1776244-2
designator XS?, comment 1776244-2
PCB Terminal Blocks, Header, Wire-to-Board, 2 Position, .197 in [5 mm] Centerline, 1 Row, 90° Wire Entry Angle, 22 – 14 AWG Wire Size; Manufacturer: TE Connectivity; PartNumber: 1776244-2; ComponentLink1Description: Product Page; ComponentLink1URL: https://www.te.com/usa-en/product-1776244-2.html; Net1: *; Net2: *
footprint TE 1776244-2 (Terminal Block PCB Mount Side Wire Entry Low Profile w/Interlock 5.0 mm Pitch (LT) UL Rating – 250 V, 10 A 14-22 AWG 2 Pos.)
pins: 1, 2
text: Цепь

## TE 1776244-3
designator XS?, comment 1776244-3
PCB Terminal Blocks, Header, Wire-to-Board, 3 Position, .197 in [5 mm] Centerline, 1 Row, 90° Wire Entry Angle, 22 – 14 AWG Wire Size; Manufacturer: TE Connectivity; PartNumber: 1776244-3; ComponentLink1Description: Product Page; ComponentLink1URL: https://www.te.com/usa-en/product-1776244-3.html; Net3: *; Net1: *; Net2: *
footprint TE 1776244-3 (Terminal Block PCB Mount Side Wire Entry Low Profile w/Interlock 5.0 mm Pitch (LT) UL Rating – 250 V, 10 A 14-22 AWG 3 Pos.)
pins: 1, 2, 3
text: Цепь

## TE 1776244-4
designator XS?, comment 1776244-4
PCB Terminal Blocks, Header, Wire-to-Board, 4 Position, .197 in [5 mm] Centerline, 1 Row, 90° Wire Entry Angle, 22 – 14 AWG Wire Size; Manufacturer: TE Connectivity; PartNumber: 1776244-4; ComponentLink1Description: Product Page; ComponentLink1URL: https://www.te.com/usa-en/product-1776244-4.html; Net4: *; Net3: *; Net1: *; Net2: *
footprint TE 1776244-4 (Terminal Block PCB Mount Side Wire Entry Low Profile w/Interlock 5.0 mm Pitch (LT) UL Rating – 250 V, 10 A 14-22 AWG 4 Pos.)
pins: 1, 2, 3, 4
text: Цепь

## TE 2081936-1
designator XW?, comment 2081936-1
2.4mm Series RF Interface, Jack, 50 Ω, Screw, 50 GHz Operating Frequency, Cable-to-Board, 1 Position, Printed Circuit Board, Panel Mount; Manufacturer: TE Connectivity; PartNumber: 2081936-1; ComponentLink1Description: Product Page; ComponentLink1URL: https://www.te.com/usa-en/product-2081936-1.html; ComponentLink2Description: DataSheet; ComponentLink2URL: https://www.te.com/commerce/DocumentDelivery/DDEController?Action=showdoc&DocId=Customer+Drawing%7F2081936%7FA1%7Fpdf%7FEnglish%7FENG_CD_2081936_A1.pdf%7F2081936-1
footprint TE 2081936-1 (2.4mm Series RF Interface, Jack, 50 ?, Screw, 50 GHz Operating Frequency, Cable-to-Board, 1 Position, Printed Circuit Board, Panel Mount)
pins: 1, 2

## TE 5749263-1
designator XS?, comment 5749263-1  NetSH: SH
DIN Connectors, Mini DIN, Wire-to-Board, 4 Position, Fully Loaded, Polarization Mating Alignment Type, .26 in [6.5 mm] Centerline; Manufacturer: TE Connectivity; PartNumber: 5749263-1; ComponentLink1Description: Product Page; ComponentLink1URL: https://www.te.com/usa-en/product-5749263-1.html; ComponentLink2Description: DataSheet; ComponentLink2URL: https://www.te.com/commerce/DocumentDelivery/DDEController?Action=showdoc&DocId=Customer+Drawing%7F5749263%7FP%7Fpdf%7FEnglish%7FENG_CD_5749263_P.pdf%7F5749263-1; Net1: *; Net2: *; Net3: *; Net4: *
footprint TE 5749263-1 (DIN Connectors, Mini DIN, Wire-to-Board, 4 Position, Fully Loaded, Polarization Mating Alignment Type, .26 in [6.5 mm] Centerline)
pins: 1, 2, 3, 4, SH 5
text: Цепь

## TestPoint
designator X?  (no BOM)
Тестовая точка; TestPadSize: 2 mm
footprint TP_dia_2mm (Тестовая точка, 2мм)
footprint TP_dia_3mm (Тестовая точка, 3мм)
pins: 1

## XT-60-PW-F
designator XS?
Header, Right-angle, 2x1; Manufacturer: AMASS; PartNumber: XT-60-PW-F; ComponentLink1Description: DataSheet; ComponentLink1URL: https://www.tme.eu/ru/Document/9b8d0c5eb7094295f3d3112c214d3ade/XT60PW%20SPEC.pdf; Net2: *; Net1: *
footprint XT-60-PW-F (AMASS)
pins: 1, 2
text: Цепь